# Altium footprint library Inductor_THT.PcbLib: 269 footprints (part 6 of 17)
Each footprint in its own frame and in the unit in brackets; x right, y up, seen from the top. Pads: shape width x height; smd on the part's side, far side on the other; paste and mask are expansions set on the pad; w line width, h text height; cw(c..) or ccw(c..) is an arc to the next point about the centre after c.
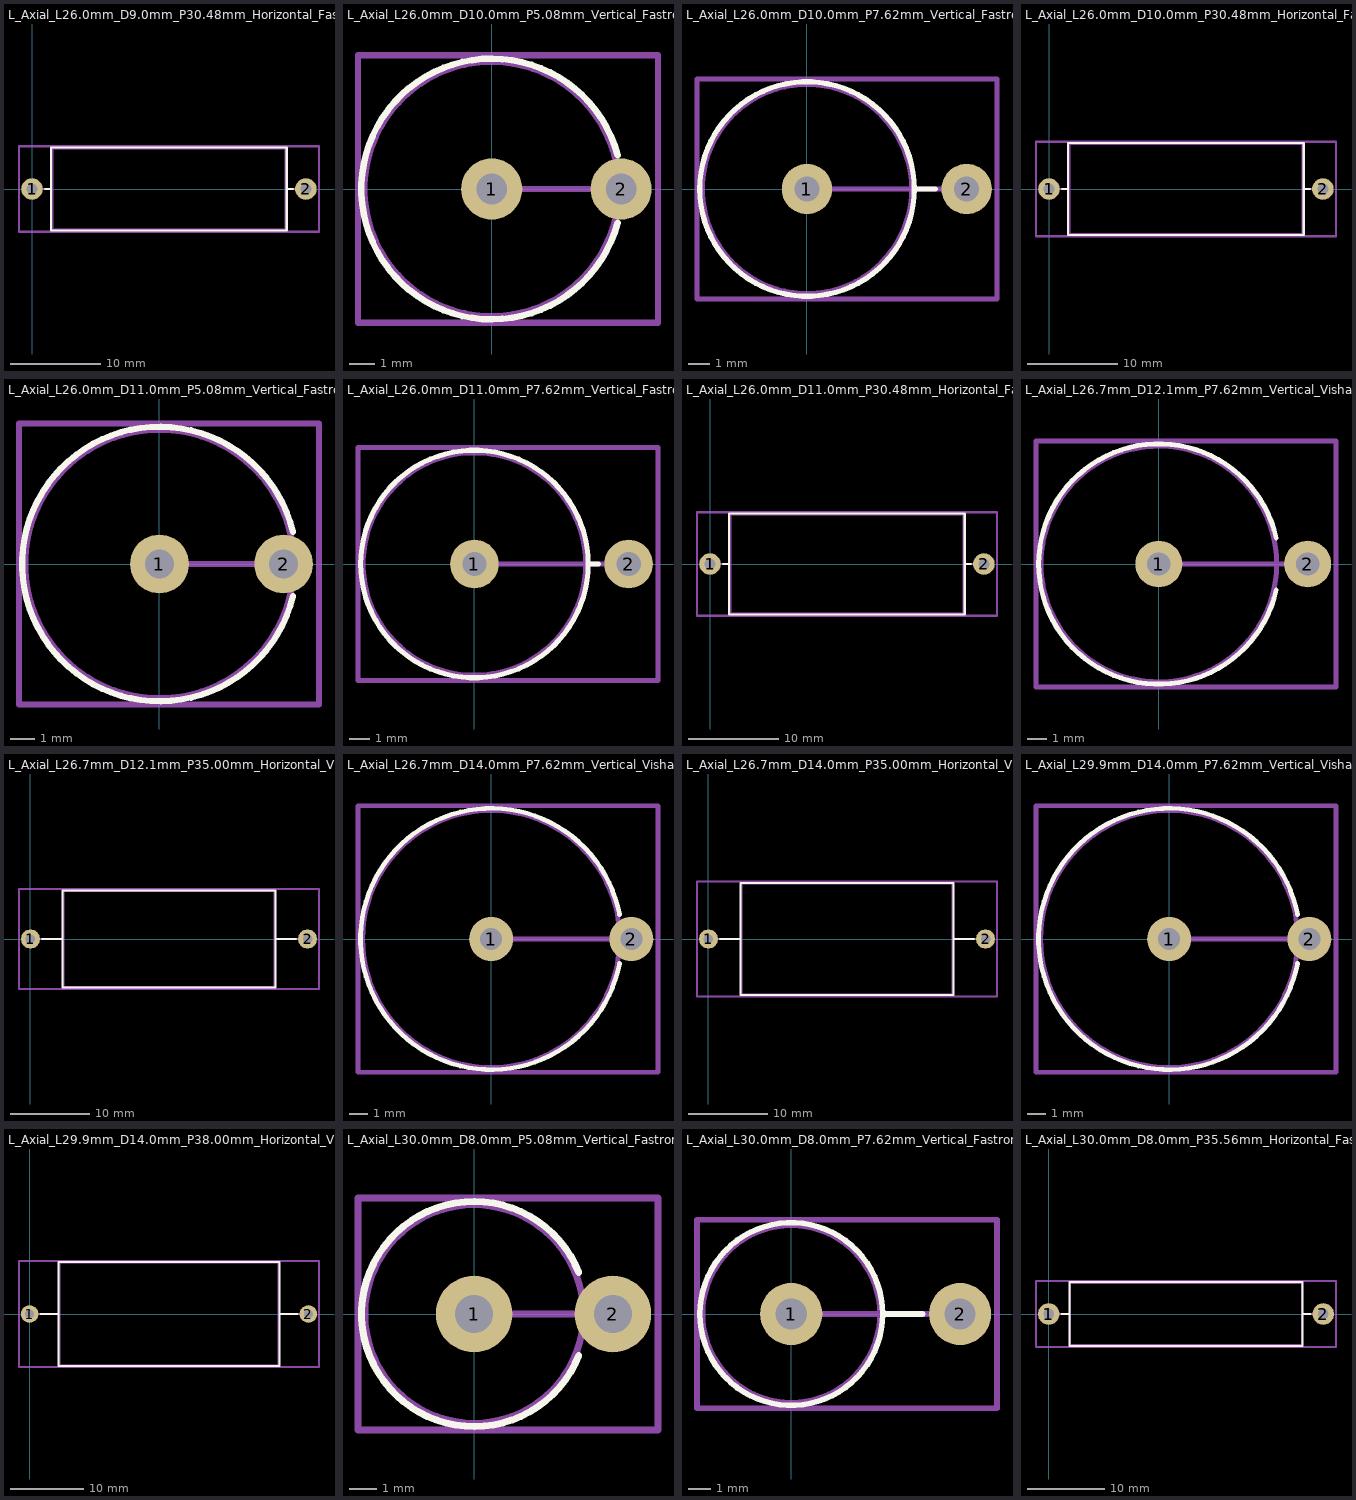
[diagram p5: the footprints below, top view; thin cyan lines are the x and y axes]

## L_Axial_L26.0mm_D9.0mm_P30.48mm_Horizontal_Fastron_77A [mm]
pads (2):
  round 2.4 hole 1.2: 1(0,0) 2(30.48,0)
F.SilkS:
  lines w0.254: 1.44,0 2.12,0 ; 28.36,0 29.04,0 ; 2.12,-4.62 28.36,-4.62 28.36,4.62 2.12,4.62 2.12,-4.62
Top Assembly:
  lines w0.254: 0,0 2.24,0 ; 28.24,0 30.48,0 ; 2.24,-4.5 28.24,-4.5 28.24,4.5 2.24,4.5 2.24,-4.5
  text "'.Designator'" at 11.193,-0.84 h1
Top Courtyard:
  lines w0.254: -1.45,-4.75 31.94,-4.75 31.94,4.75 -1.45,4.75 -1.45,-4.75
Top Designator:
  text ".Designator" at 7.627,-0.508 h1.52
3D body "L_Axial_L26.0mm_D9.0mm_P30.48mm_Horizontal_Fastron_77A.step": height 9.1, standoff -3, extent -0.446,-4.496 30.926,4.496

## L_Axial_L26.0mm_D10.0mm_P5.08mm_Vertical_Fastron_77A [mm]
pads (2):
  round 2.4 hole 1.2: 1(0,0) 2(5.08,0)
F.SilkS:
  lines w0.254: 4.947,-1.32 cw(c0,0) 4.947,1.32
Top Assembly:
  circle w0.254: c0,0 r5
  lines w0.254: 0,0 5.08,0
  text "'.Designator'" at -4.047,0.86 h1
Top Courtyard:
  lines w0.254: -5.25,-5.25 6.53,-5.25 6.53,5.25 -5.25,5.25 -5.25,-5.25
Top Designator:
  text ".Designator" at -6.978,-0.508 h1.52
3D body "L_Axial_L26.0mm_D10.0mm_P5.08mm_Vertical_Fastron_77A.step": height 29.25, standoff -3, extent -5,-5 5.53,5

## L_Axial_L26.0mm_D10.0mm_P7.62mm_Vertical_Fastron_77A [mm]
pads (2):
  round 2.4 hole 1.2: 1(0,0) 2(7.62,0)
F.SilkS:
  circle w0.254: c0,0 r5.12
  lines w0.254: 5.12,0 6.12,0
Top Assembly:
  circle w0.254: c0,0 r5
  lines w0.254: 0,0 7.62,0
  text "'.Designator'" at -4.047,0.86 h1
Top Courtyard:
  lines w0.254: -5.25,-5.25 9.07,-5.25 9.07,5.25 -5.25,5.25 -5.25,-5.25
Top Designator:
  text ".Designator" at -5.708,-0.508 h1.52
3D body "L_Axial_L26.0mm_D10.0mm_P7.62mm_Vertical_Fastron_77A.step": height 29.25, standoff -3, extent -5,-4.996 8.066,4.996

## L_Axial_L26.0mm_D10.0mm_P30.48mm_Horizontal_Fastron_77A [mm]
pads (2):
  round 2.4 hole 1.2: 1(0,0) 2(30.48,0)
F.SilkS:
  lines w0.254: 1.44,0 2.12,0 ; 28.36,0 29.04,0 ; 2.12,-5.12 28.36,-5.12 28.36,5.12 2.12,5.12 2.12,-5.12
Top Assembly:
  lines w0.254: 0,0 2.24,0 ; 28.24,0 30.48,0 ; 2.24,-5 28.24,-5 28.24,5 2.24,5 2.24,-5
  text "'.Designator'" at 11.193,-0.84 h1
Top Courtyard:
  lines w0.254: -1.45,-5.25 31.94,-5.25 31.94,5.25 -1.45,5.25 -1.45,-5.25
Top Designator:
  text ".Designator" at 7.627,-0.508 h1.52
3D body "L_Axial_L26.0mm_D10.0mm_P30.48mm_Horizontal_Fastron_77A.step": height 10.1, standoff -3, extent -0.446,-4.996 30.926,4.996

## L_Axial_L26.0mm_D11.0mm_P5.08mm_Vertical_Fastron_77A [mm]
pads (2):
  round 2.4 hole 1.2: 1(0,0) 2(5.08,0)
F.SilkS:
  lines w0.254: 5.463,-1.32 cw(c0,0) 5.463,1.32
Top Assembly:
  circle w0.254: c0,0 r5.5
  lines w0.254: 0,0 5.08,0
  text "'.Designator'" at -4.047,0.86 h1
Top Courtyard:
  lines w0.254: -5.75,-5.75 6.53,-5.75 6.53,5.75 -5.75,5.75 -5.75,-5.75
Top Designator:
  text ".Designator" at -7.228,-0.508 h1.52
3D body "L_Axial_L26.0mm_D11.0mm_P5.08mm_Vertical_Fastron_77A.step": height 29.25, standoff -3, extent -5.5,-5.499 5.53,5.499

## L_Axial_L26.0mm_D11.0mm_P7.62mm_Vertical_Fastron_77A [mm]
pads (2):
  round 2.4 hole 1.2: 1(0,0) 2(7.62,0)
F.SilkS:
  circle w0.254: c0,0 r5.62
  lines w0.254: 5.62,0 6.12,0
Top Assembly:
  circle w0.254: c0,0 r5.5
  lines w0.254: 0,0 7.62,0
  text "'.Designator'" at -4.047,0.86 h1
Top Courtyard:
  lines w0.254: -5.75,-5.75 9.07,-5.75 9.07,5.75 -5.75,5.75 -5.75,-5.75
Top Designator:
  text ".Designator" at -5.958,-0.508 h1.52
3D body "L_Axial_L26.0mm_D11.0mm_P7.62mm_Vertical_Fastron_77A.step": height 29.25, standoff -3, extent -5.5,-5.5 8.066,5.5

## L_Axial_L26.0mm_D11.0mm_P30.48mm_Horizontal_Fastron_77A [mm]
pads (2):
  round 2.4 hole 1.2: 1(0,0) 2(30.48,0)
F.SilkS:
  lines w0.254: 1.44,0 2.12,0 ; 28.36,0 29.04,0 ; 2.12,-5.62 28.36,-5.62 28.36,5.62 2.12,5.62 2.12,-5.62
Top Assembly:
  lines w0.254: 0,0 2.24,0 ; 28.24,0 30.48,0 ; 2.24,-5.5 28.24,-5.5 28.24,5.5 2.24,5.5 2.24,-5.5
  text "'.Designator'" at 11.193,-0.84 h1
Top Courtyard:
  lines w0.254: -1.45,-5.75 31.94,-5.75 31.94,5.75 -1.45,5.75 -1.45,-5.75
Top Designator:
  text ".Designator" at 7.627,-0.508 h1.52
3D body "L_Axial_L26.0mm_D11.0mm_P30.48mm_Horizontal_Fastron_77A.step": height 11.1, standoff -3, extent -0.446,-5.496 30.926,5.496

## L_Axial_L26.7mm_D12.1mm_P7.62mm_Vertical_Vishay_IHA-103 [mm]
pads (2):
  round 2.4 hole 1.2: 1(0,0) 2(7.62,0)
F.SilkS:
  lines w0.254: 6.012,-1.32 cw(c0,0) 6.012,1.32
Top Assembly:
  circle w0.254: c0,0 r6.035
  lines w0.254: 0,0 7.62,0
  text "'.Designator'" at -4.047,0.86 h1
Top Courtyard:
  lines w0.254: -6.29,-6.29 -6.29,6.29 9.07,6.29 9.07,-6.29 -6.29,-6.29
Top Designator:
  text ".Designator" at -6.228,-0.508 h1.52

## L_Axial_L26.7mm_D12.1mm_P35.00mm_Horizontal_Vishay_IHA-103 [mm]
pads (2):
  round 2.4 hole 1.2: 1(0,0) 2(35,0)
F.SilkS:
  lines w0.254: 1.44,0 4.045,0 ; 30.955,0 33.56,0 ; 4.045,-6.155 30.955,-6.155 30.955,6.155 4.045,6.155 4.045,-6.155
Top Assembly:
  lines w0.254: 0,0 4.165,0 ; 30.835,0 35,0 ; 4.165,-6.035 30.835,-6.035 30.835,6.035 4.165,6.035 4.165,-6.035
  text "'.Designator'" at 13.453,-0.84 h1
Top Courtyard:
  lines w0.254: -1.45,-6.29 36.45,-6.29 36.45,6.29 -1.45,6.29 -1.45,-6.29
Top Designator:
  text ".Designator" at 9.882,-0.508 h1.52

## L_Axial_L26.7mm_D14.0mm_P7.62mm_Vertical_Vishay_IHA-104 [mm]
pads (2):
  round 2.4 hole 1.2: 1(0,0) 2(7.62,0)
F.SilkS:
  lines w0.254: 6.981,-1.32 cw(c0,0) 6.981,1.32
Top Assembly:
  circle w0.254: c0,0 r6.985
  lines w0.254: 0,0 7.62,0
  text "'.Designator'" at -4.047,0.86 h1
Top Courtyard:
  lines w0.254: -7.24,-7.24 9.07,-7.24 9.07,7.24 -7.24,7.24 -7.24,-7.24
Top Designator:
  text ".Designator" at -6.703,-0.508 h1.52

## L_Axial_L26.7mm_D14.0mm_P35.00mm_Horizontal_Vishay_IHA-104 [mm]
pads (2):
  round 2.4 hole 1.2: 1(0,0) 2(35,0)
F.SilkS:
  lines w0.254: 1.44,0 4.045,0 ; 30.955,0 33.56,0 ; 4.045,-7.105 30.955,-7.105 30.955,7.105 4.045,7.105 4.045,-7.105
Top Assembly:
  lines w0.254: 0,0 4.165,0 ; 30.835,0 35,0 ; 4.165,-6.985 30.835,-6.985 30.835,6.985 4.165,6.985 4.165,-6.985
  text "'.Designator'" at 13.453,-0.84 h1
Top Courtyard:
  lines w0.254: -1.45,-7.24 36.45,-7.24 36.45,7.24 -1.45,7.24 -1.45,-7.24
Top Designator:
  text ".Designator" at 9.882,-0.508 h1.52

## L_Axial_L29.9mm_D14.0mm_P7.62mm_Vertical_Vishay_IHA-105 [mm]
pads (2):
  round 2.4 hole 1.2: 1(0,0) 2(7.62,0)
F.SilkS:
  lines w0.254: 6.981,-1.32 cw(c0,0) 6.981,1.32
Top Assembly:
  circle w0.254: c0,0 r6.985
  lines w0.254: 0,0 7.62,0
  text "'.Designator'" at -4.047,0.86 h1
Top Courtyard:
  lines w0.254: -7.24,-7.24 9.07,-7.24 9.07,7.24 -7.24,7.24 -7.24,-7.24
Top Designator:
  text ".Designator" at -6.703,-0.508 h1.52

## L_Axial_L29.9mm_D14.0mm_P38.00mm_Horizontal_Vishay_IHA-105 [mm]
pads (2):
  round 2.4 hole 1.2: 1(0,0) 2(38,0)
F.SilkS:
  lines w0.254: 1.44,0 3.955,0 ; 34.045,0 36.56,0 ; 3.955,-7.105 3.955,7.105 34.045,7.105 34.045,-7.105 3.955,-7.105
Top Assembly:
  lines w0.254: 0,0 4.075,0 ; 33.925,0 38,0 ; 4.075,-6.985 4.075,6.985 33.925,6.985 33.925,-6.985 4.075,-6.985
  text "'.Designator'" at 14.953,-0.84 h1
Top Courtyard:
  lines w0.254: -1.45,-7.24 -1.45,7.24 39.45,7.24 39.45,-7.24 -1.45,-7.24
Top Designator:
  text ".Designator" at 11.382,-0.508 h1.52

## L_Axial_L30.0mm_D8.0mm_P5.08mm_Vertical_Fastron_77A [mm]
pads (2):
  round 2.8 hole 1.4: 1(0,0) 2(5.08,0)
F.SilkS:
  lines w0.254: 3.829,-1.52 cw(c0,0) 3.829,1.52
Top Assembly:
  circle w0.254: c0,0 r4
  lines w0.254: 0,0 5.08,0
  text "'.Designator'" at -4.047,1.06 h1
Top Courtyard:
  lines w0.254: -4.25,-4.25 6.73,-4.25 6.73,4.25 -4.25,4.25 -4.25,-4.25
Top Designator:
  text ".Designator" at -6.378,-0.508 h1.52
3D body "L_Axial_L30.0mm_D8.0mm_P5.08mm_Vertical_Fastron_77A.step": height 33.95, standoff -3, extent -4,-4 5.626,4

## L_Axial_L30.0mm_D8.0mm_P7.62mm_Vertical_Fastron_77A [mm]
pads (2):
  round 2.8 hole 1.4: 1(0,0) 2(7.62,0)
F.SilkS:
  circle w0.254: c0,0 r4.12
  lines w0.254: 4.12,0 5.92,0
Top Assembly:
  circle w0.254: c0,0 r4
  lines w0.254: 0,0 7.62,0
  text "'.Designator'" at -4.047,1.06 h1
Top Courtyard:
  lines w0.254: -4.25,-4.25 9.28,-4.25 9.28,4.25 -4.25,4.25 -4.25,-4.25
Top Designator:
  text ".Designator" at -5.103,-0.508 h1.52
3D body "L_Axial_L30.0mm_D8.0mm_P7.62mm_Vertical_Fastron_77A.step": height 33.95, standoff -3, extent -4,-4 8.166,4

## L_Axial_L30.0mm_D8.0mm_P35.56mm_Horizontal_Fastron_77A [mm]
pads (2):
  round 2.8 hole 1.4: 1(0,0) 2(35.56,0)
F.SilkS:
  lines w0.254: 1.64,0 2.66,0 ; 32.9,0 33.92,0 ; 2.66,-4.12 2.66,4.12 32.9,4.12 32.9,-4.12 2.66,-4.12
Top Assembly:
  lines w0.254: 0,0 2.78,0 ; 32.78,0 35.56,0 ; 2.78,-4 2.78,4 32.78,4 32.78,-4 2.78,-4
  text "'.Designator'" at 13.733,-0.84 h1
Top Courtyard:
  lines w0.254: -1.65,-4.25 -1.65,4.25 37.21,4.25 37.21,-4.25 -1.65,-4.25
Top Designator:
  text ".Designator" at 10.162,-0.508 h1.52